# Altium footprint library AVRTank.PcbLib: 8 footprints
Each footprint in its own frame and in the unit in brackets; x right, y up, seen from the top. Pads: shape width x height; smd on the part's side, far side on the other; paste and mask are expansions set on the pad; w line width, h text height; cw(c..) or ccw(c..) is an arc to the next point about the centre after c.
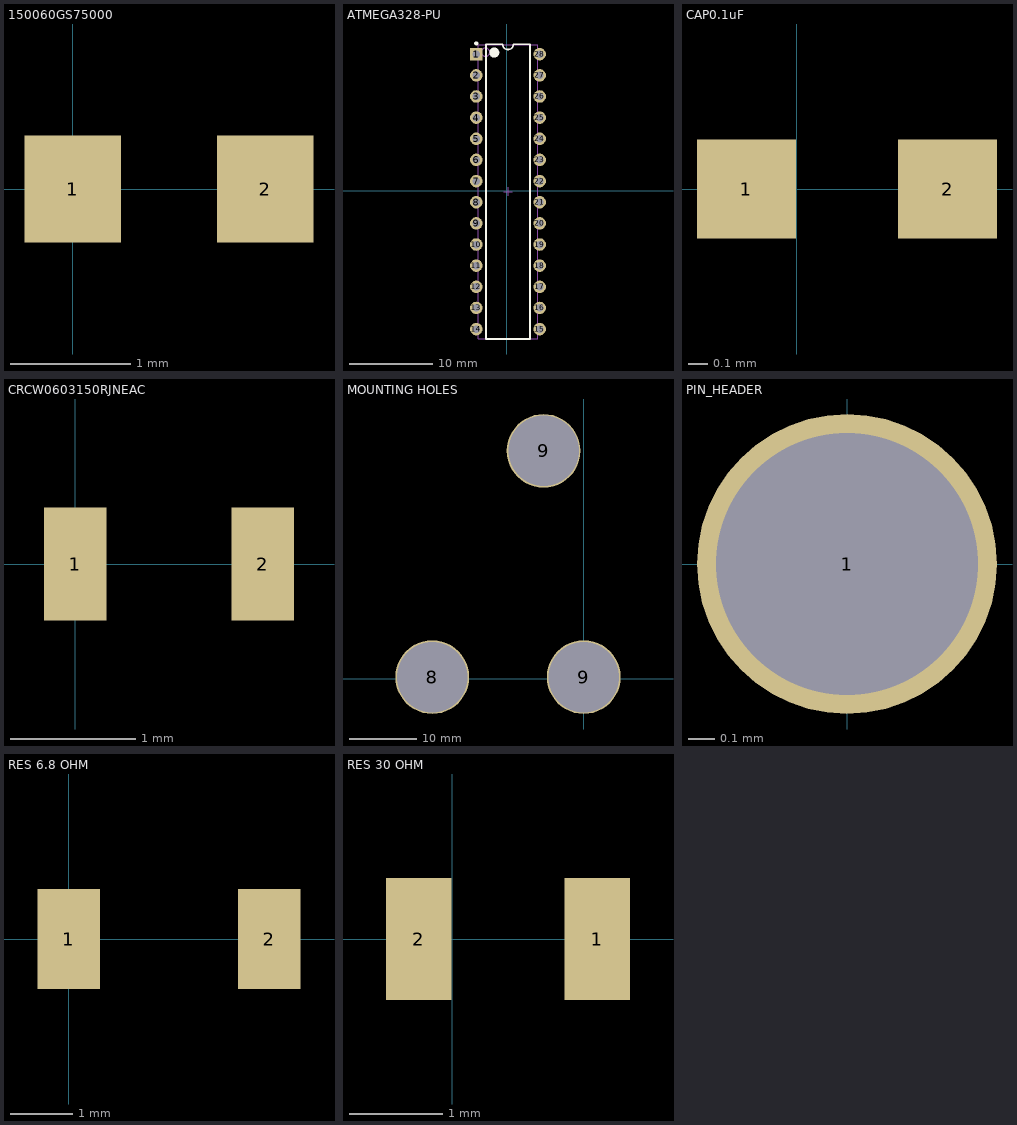
[diagram p0: the footprints below, top view; thin cyan lines are the x and y axes]

## 150060GS75000 [mm]
pads (2):
  rect 0.8x0.889 smd: 1(0,0) 2(1.6,0)
3D body "CRCW080530R0FKEAC.STEP": height 0.6, standoff 0, extent -0.238,-0.625 1.762,0.625

## ATMEGA328-PU [mm]
pads (28):
  rect 1.5x1.5 hole 0.9: 1(-3.683,16.383)
  round 1.5 hole 0.9: 2(-3.683,13.843) 3(-3.683,11.303) 4(-3.683,8.763) 5(-3.683,6.223) 6(-3.683,3.683) 7(-3.683,1.143) 8(-3.683,-1.397) 9(-3.683,-3.937) 10(-3.683,-6.477) 11(-3.683,-9.017) 12(-3.683,-11.557) 13(-3.683,-14.097) 14(-3.683,-16.637) 15(3.937,-16.637) 16(3.937,-14.097) 17(3.937,-11.557) 18(3.937,-9.017) 19(3.937,-6.477) 20(3.937,-3.937) 21(3.937,-1.397) 22(3.937,1.143) 23(3.937,3.683) 24(3.937,6.223) 25(3.937,8.763) 26(3.937,11.303) 27(3.937,13.843) 28(3.937,16.383)
Top Overlay:
  circle w0.25: c-3.683,17.683 r0.125
  circle w0.6: c-1.523,16.573 r0.3
  lines w0.2: -2.523,-17.827 -2.523,17.573 -0.508,17.573 ccw(c0.127,17.573) 0.762,17.573 2.777,17.573 2.777,-17.827 -2.523,-17.827
Mechanical 13:
  circle w0.1: c-2.573,16.623 r0.5
  lines w0.1: -3.473,-17.777 -3.473,17.523 3.727,17.523 3.727,-17.777 -3.473,-17.777
Mechanical 15:
  lines w0.1: -0.373,-0.127 0.627,-0.127 ; 0.127,-0.627 0.127,0.373
3D body: height 4.58, standoff 0, extent -3.473,-17.777 3.727,17.523

## CAP0.1uF [mm]
pads (2):
  rect 0.5x0.5 smd: 1(-0.254,0) 2(0.762,0)
3D body "GRM155R71C104KA88D.STEP": height 0.48, standoff -0.02, extent -0.246,-0.254 0.754,0.296

## CRCW0603150RJNEAC [mm]
pads (2):
  rect 0.5x0.9 smd: 1(0,0) 2(1.5,0)
3D body "CRCW0603150RJNEAC.STEP": height 0.55, standoff 0, extent -0.013,-0.381 1.587,0.419

## MOUNTING HOLES [mm]
pads (3):
  round 11 hole 10.5: 8(-22.606,0.254) 9(-6,34) 9(-0.006,0.254)

## PIN_HEADER [mil]
pads (1):
  round 45 hole 39.37: 1(0,0)
3D body "PREC001SAAN-RC.STEP": height 329.92, standoff -120.08, extent -49.99,-50.88 50.01,49.12

## RES 6.8 OHM [mm]
pads (2):
  rect 1x1.6 smd: 1(0,0) 2(3.2,0)
3D body "RMCF1206JT6R80.STEP": height 0.7, standoff 0, extent 0,-0.8 3.2,0.8

## RES 30 OHM [mm]
pads (2):
  rect 0.7x1.3 smd: 1(1.55,0) 2(-0.356,0)
3D body "CRCW080530R0FKEAC.STEP": height 0.6, standoff 0, extent -0.416,-0.625 1.584,0.625